# Altium footprint library pcb.PcbLib: 5 footprints
Each footprint in its own frame and in the unit in brackets; x right, y up, seen from the top. Pads: shape width x height; smd on the part's side, far side on the other; paste and mask are expansions set on the pad; w line width, h text height; cw(c..) or ccw(c..) is an arc to the next point about the centre after c.
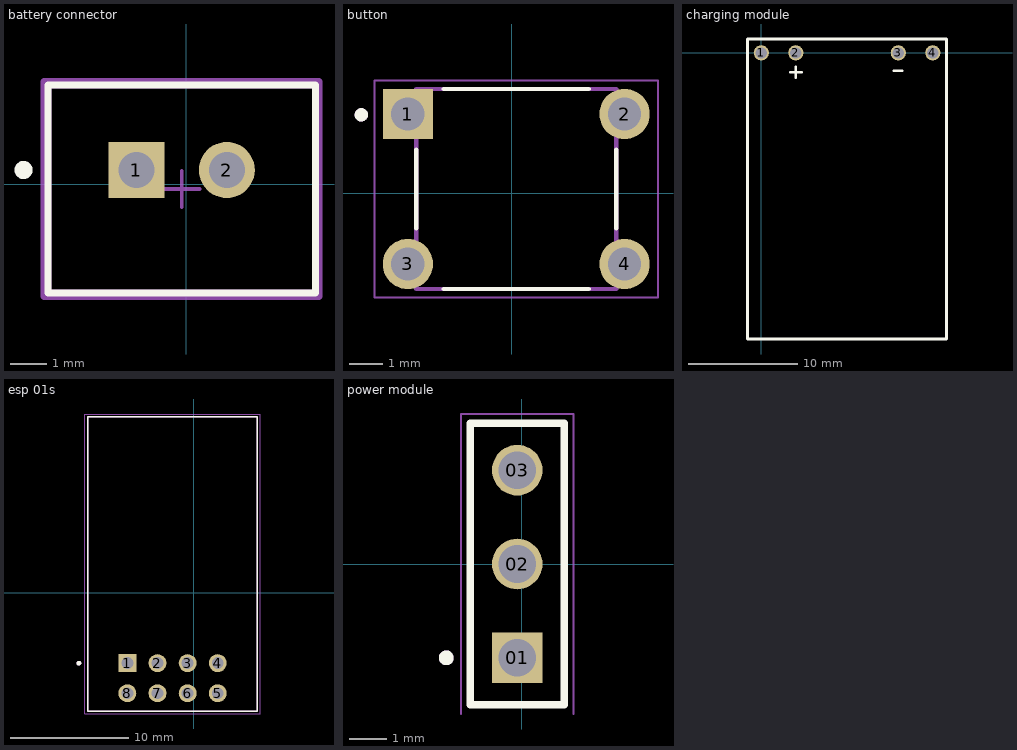
[diagram p0: the footprints below, top view; thin cyan lines are the x and y axes]

## battery connector [mm]
pads (2):
  rect 1.55x1.55 hole 1 paste-2539.97 mask+0: 1(-1.377,0.398)
  round 1.55 hole 1 paste-2539.97 mask+0: 2(1.123,0.398)
Top Overlay:
  circle w0.25: c-4.502,0.398 r0.125
  lines w0.2: -3.827,-3.002 3.573,-3.002 3.573,2.748 -3.827,2.748 -3.827,-3.002
Top 3D Body:
  lines w0.2: -3.827,-3.002 3.573,-3.002 3.573,2.748 -3.827,2.748 -3.827,-3.002
Board:
  lines w0.2: -3.927,-3.102 3.673,-3.102 3.673,2.848 -3.927,2.848 -3.927,-3.102
Top Assembly:
  lines w0.2: -3.927,-3.102 3.673,-3.102 3.673,2.848 -3.927,2.848 -3.927,-3.102
  text ".Designator" at -2.286,-1.717 h1
Top Component Center:
  lines w0.1: -0.627,-0.127 0.373,-0.127 ; -0.127,-0.627 -0.127,0.373
3D body "Conn_JST_B2B-XH-A_LF_SN_eec.STEP": height 0.25, standoff 0, extent -3.927,-3.102 3.673,2.848

## button [mm]
pads (4):
  rect 1.508x1.508 / inner round 1.508 / far side rect 1.508x1.508 hole 1: 1(-3.123,2.377)
  round 1.508 hole 1: 2(3.377,2.377) 3(-3.123,-2.123) 4(3.377,-2.123)
Top Overlay:
  circle w0.2: c-4.52,2.353 r0.1
  lines w0.127: -2.873,-1.049 -2.873,1.303 ; -2.049,-2.873 2.303,-2.873 ; -2.049,3.127 2.303,3.127 ; 3.127,-1.049 3.127,1.303
Mechanical 13:
  circle w0.2: c-4.52,2.353 r0.1
  lines w0.127: -2.873,-2.873 -2.873,3.127 3.127,3.127 3.127,-2.873 -2.873,-2.873
Mechanical 15:
  lines w0.05: -4.127,-3.127 4.381,-3.127 4.381,3.381 -4.127,3.381 -4.127,-3.127

## charging module [mm]
pads (4):
  round 1.395 hole 1.02: 1(0,0) 2(3.17,0) 3(12.585,0) 4(15.755,0)
Top Overlay:
  lines w0.254: 2.667,-1.778 3.683,-1.778 ; 3.175,-2.286 3.175,-1.27 ; 12.192,-1.651 12.954,-1.651 ; -1.27,-26.289 -1.27,1.27 17.018,1.27 17.018,-26.289 -1.27,-26.289

## esp 01s [mil]
pads (8):
  rect 59.37x59.37 / inner round 59.37 / far side rect 59.37x59.37 hole 39.37: 1(-220,-234.13)
  round 59.37 hole 39.37: 2(-120,-234.13) 3(-20,-234.13) 4(80,-234.13) 5(80,-334.13) 6(-20,-334.13) 7(-120,-334.13) 8(-220,-334.13)
Top Overlay:
  circle w7.87: c-381.02,-234.13 r3.94
  lines w5: -351.5,-393.19 -351.5,583.19 211.5,583.19 211.5,-393.19 -351.5,-393.19
Mechanical 13:
  circle w7.87: c-381.02,-234.13 r3.94
  lines w5: -351.5,-393.19 -351.5,583.19 211.5,583.19 211.5,-393.19 -351.5,-393.19
Mechanical 15:
  lines w1.97: -361.34,-403.03 221.34,-403.03 221.34,593.03 -361.34,593.03 -361.34,-403.03
3D body "step_temp.STEP": height 255.91, standoff -236.22, extent -353.46,-391.22 213.46,581.22

## power module [mm]
pads (3):
  rect 1.37x1.37 / inner round 1.37 / far side rect 1.37x1.37 hole 1.02: 01(-0.127,-2.54)
  round 1.37 hole 1.02: 02(-0.127,0) 03(-0.127,2.54)
Top Overlay:
  circle w0.2: c-2.047,-2.54 r0.1
  lines w0.2: -1.397,-3.81 1.143,-3.81 1.143,3.81 -1.397,3.81 -1.397,-3.81
Mechanical 13:
  circle w0.2: c-2.047,-2.54 r0.1
  lines w0.1: -1.397,-3.81 -1.397,3.81 ; -1.397,-3.81 1.143,-3.81 ; -1.397,-3.81 -1.397,3.81 ; -1.397,3.81 1.143,3.81 ; -1.397,3.81 1.143,3.81 ; 1.143,-3.81 1.143,3.81 ; 1.143,-3.81 1.143,3.81
Mechanical 15:
  lines w0.05: -1.647,-4.06 -1.647,4.06 1.393,4.06 1.393,-4.06